# Altium footprint library FYP_Drone.PcbLib: 32 footprints (part 1 of 2)
Each footprint in its own frame and in the unit in brackets; x right, y up, seen from the top. Pads: shape width x height; smd on the part's side, far side on the other; paste and mask are expansions set on the pad; w line width, h text height; cw(c..) or ccw(c..) is an arc to the next point about the centre after c.
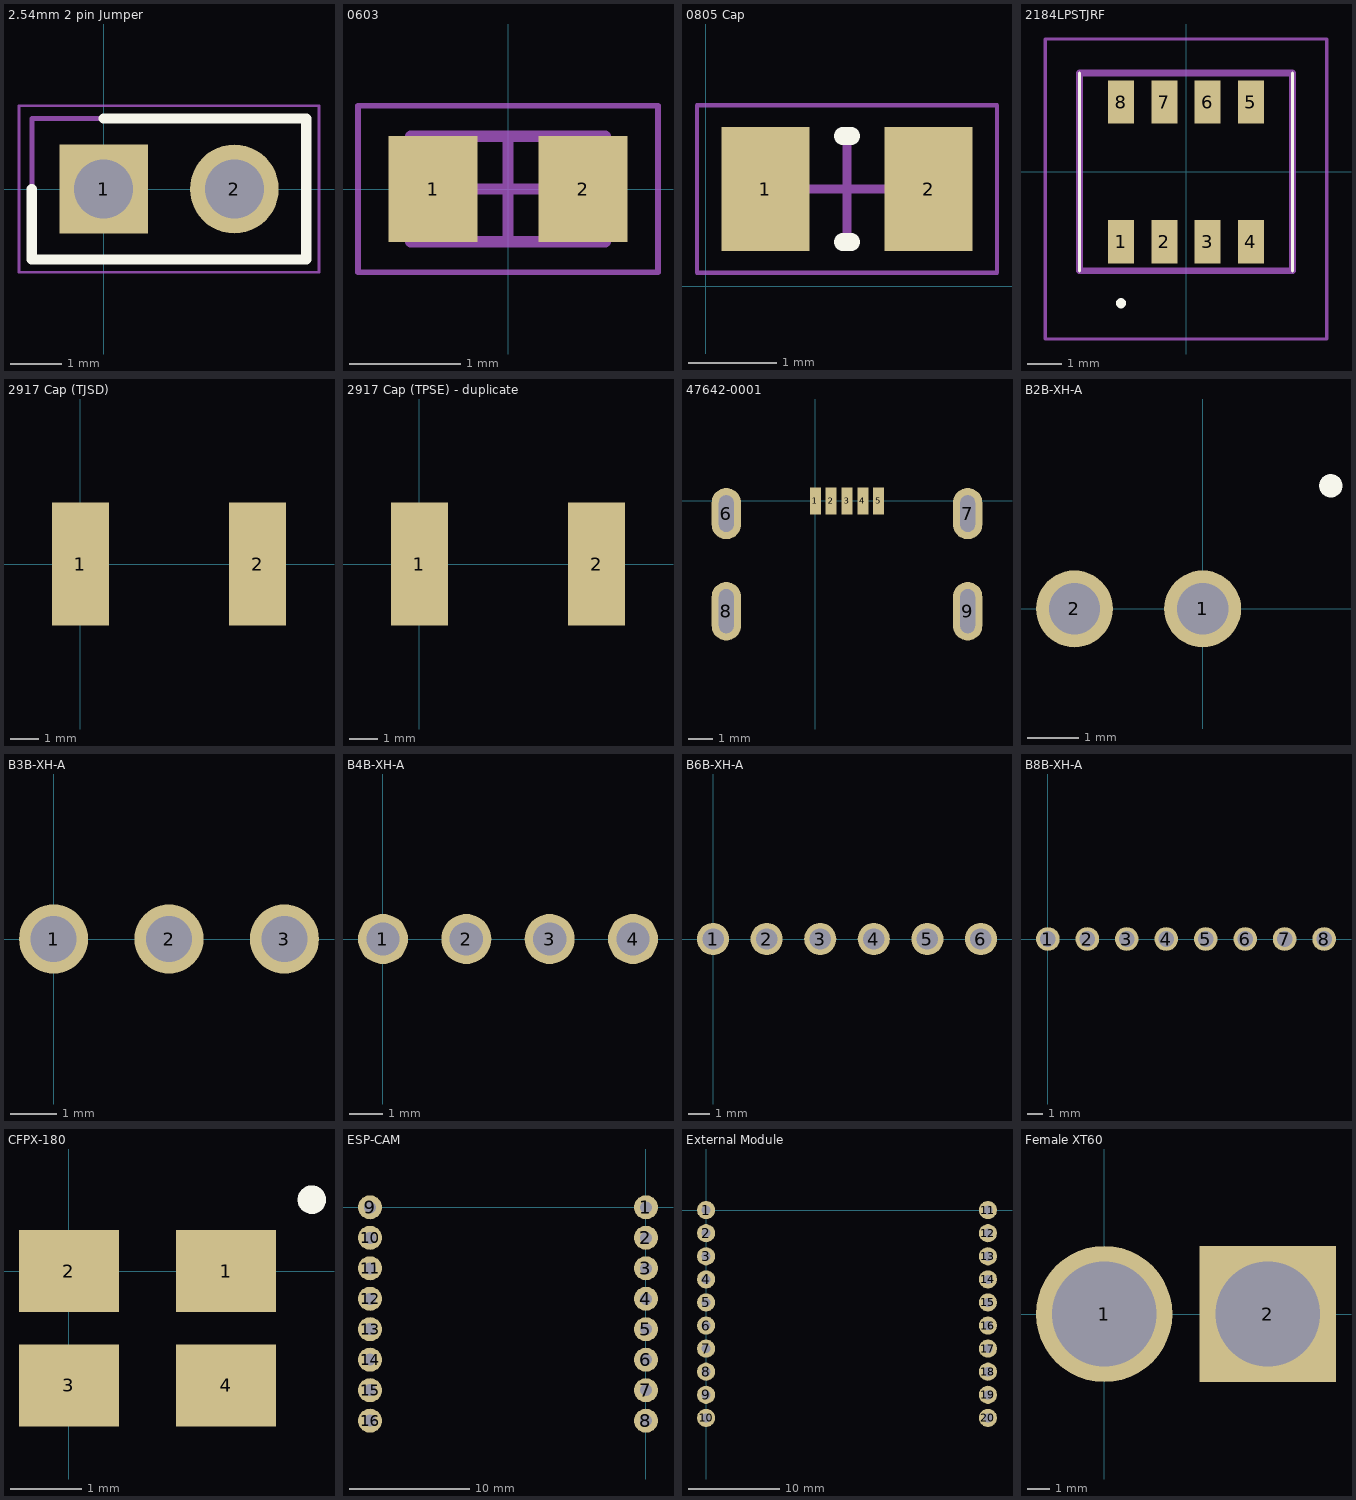
[diagram p0: the footprints below, top view; thin cyan lines are the x and y axes]

## 2.54mm 2 pin Jumper [mm] "Headers & Wire Housings KK 100 Hdr Assy Bkwy Bkwy 02 Ckt 30 SGold"
pads (2):
  rect 1.725x1.725 hole 1.15: 1(0,0)
  round 1.725 hole 1.15: 2(2.54,0)
Top Overlay:
  lines w0.2: -1.395,0 -1.395,-1.37 3.935,-1.37 3.935,1.37 0,1.37
Mechanical 13:
  lines w0.1: -1.395,-1.37 3.935,-1.37 3.935,1.37 -1.395,1.37 -1.395,-1.37
Mechanical 15:
  lines w0.05: -1.645,-1.62 4.185,-1.62 4.185,1.62 -1.645,1.62 -1.645,-1.62
3D body "22-28-5027.stp": height 10.67, standoff -3.68, extent -1.27,-1.245 3.81,1.245

## 0603 [mm] "Generic 0603 resistor"
height 0.55
pads (2):
  rect 0.8x0.95 smd: 1(-0.675,0) 2(0.675,0)
Mechanical 13:
  lines w0.1: -0.875,-0.475 -0.875,0.475 0.875,0.475 0.875,-0.475 -0.875,-0.475
Mechanical 15:
  lines w0.05: -1.35,-0.75 -1.35,0.75 1.35,0.75 1.35,-0.75 -1.35,-0.75
  lines w0.1: -0.475,0 0.475,0 ; 0,-0.475 0,0.475
3D body: height 0.55, standoff 0, extent -0.575,-0.475 0.575,0.475
3D body: height 0.55, standoff 0, extent -0.875,-0.475 -0.575,0.475
3D body: height 0.55, standoff 0, extent 0.575,-0.475 0.875,0.475

## 0805 Cap [mm] "Generic 0805 Cap"
pads (2):
  rect 1x1.4 smd: 1(0.675,1.1) 2(2.525,1.1)
Top Overlay:
  lines w0.2: 1.55,0.5 1.65,0.5 ; 1.55,1.7 1.65,1.7
Mechanical 15:
  lines w0.05: -0.1,0.15 3.3,0.15 3.3,2.05 -0.1,2.05 -0.1,0.15
  lines w0.1: 1.1,1.1 2.1,1.1 ; 1.6,0.6 1.6,1.6
3D body: height 1.25, standoff 0, extent 0.7,0.375 2.5,1.825
3D body: height 1.25, standoff 0, extent 0.5,0.375 0.7,1.825
3D body: height 1.25, standoff 0, extent 2.5,0.375 2.7,1.825

## 2184LPSTJRF [mm]
pads (8):
  rect 0.76x1.27 smd: 1(-1.905,-2.05) 2(-0.635,-2.05) 3(0.635,-2.05) 4(1.905,-2.05) 5(1.905,2.05) 6(0.635,2.05) 7(-0.635,2.05) 8(-1.905,2.05)
Top Overlay:
  lines w0.1: -3.125,-2.9 -3.125,2.9 -3.125,-2.9 ; 3.125,-2.9 3.125,2.9 3.125,-2.9
  lines w0.2: -1.905,-3.9 cw(c-1.905,-3.85) -1.905,-3.8 ; -1.905,-3.9 ccw(c-1.905,-3.85) -1.905,-3.8 ; -1.905,-3.9 cw(c-1.905,-3.85) -1.905,-3.8
Mechanical 13:
  lines w0.2: -3.125,-2.9 -3.125,2.9 3.125,2.9 3.125,-2.9 -3.125,-2.9
Mechanical 15:
  lines w0.1: -4.125,-4.9 -4.125,3.9 4.125,3.9 4.125,-4.9 -4.125,-4.9
3D body "218-4LPSTJRF.stp": height 2.8, standoff 0, extent -3.125,-2.9 3.125,2.9

## 2917 Cap (TJSD) [mm] "Tantalum Capacitors - Solid SMD"
pads (2):
  rect 2x4.3 smd: 1(0,0) 2(6.2,0)
3D body "TJSD v2.step": height 2.9, standoff 0, extent -0.55,-2.15 6.75,2.15

## 2917 Cap (TPSE) - duplicate [mm] "Tantalum Capacitors - Solid SMD"
pads (2):
  rect 2x4.3 smd: 1(0,0) 2(6.2,0)
3D body "TPSE v3.step": height 4.1, standoff 0, extent -0.55,-2.15 6.75,2.15

## 47642-0001 [mm] "Molex USB Connector, Through Hole, Socket B, Solder, Right Angle"
pads (9):
  rect 0.45x1.1 smd: 1(0,0) 2(0.65,0) 3(1.3,0) 4(1.95,0) 5(2.6,0)
  rrect100% 1.2x2.1 hole 1.5 slot 0.6 at 0 deg unplated: 6(-3.65,-0.52) 7(6.25,-0.52)
  rrect100% 1.2x2.4 hole 1.8 slot 0.6 at 0 deg unplated: 8(-3.65,-4.52) 9(6.25,-4.52)
3D body "476420001.stp": height 1.8, standoff -1.18, extent -3.8,-6.88 6.4,0.35

## B2B-XH-A [mm] "2 pin JST-XH male connector"
pads (2):
  round 1.5 hole 1: 1(0,0) 2(-2.5,0)
Top Overlay:
  circle w0.254: c2.5,2.4 r0.1
3D body "B2B-XH-A.STEP": height 2.97, standoff -7.43, extent -4.95,-2.375 2.45,3.375

## B3B-XH-A [mm] "3 pin JST-XH connector"
pads (3):
  round 1.5 hole 1: 1(0,0) 2(2.5,0) 3(5,0)
3D body "B3B-XH-A.STEP": height 7, standoff -3.4, extent -2.45,-2.375 7.45,3.375

## B4B-XH-A [mm]
pads (4):
  round 1.5 hole 1: 1(0,0) 2(2.5,0) 3(5,0) 4(7.5,0)
3D body "B4B-XH-A.STEP": height 7, standoff -3.4, extent -2.45,-2.375 9.95,3.375

## B6B-XH-A [mm]
pads (6):
  round 1.5 hole 1: 1(0,0) 2(2.5,0) 3(5,0) 4(7.5,0) 5(10,0) 6(12.5,0)
3D body "B6B-XH-A.STEP": height 7, standoff -3.4, extent -2.45,-2.375 14.95,3.375

## B8B-XH-A [mm]
pads (8):
  round 1.5 hole 1: 1(0,0) 2(2.5,0) 3(5,0) 4(7.5,0) 5(10,0) 6(12.5,0) 7(15,0) 8(17.5,0)
3D body "B8B-XH-A.STEP": height 7, standoff -3.4, extent -2.45,-2.375 19.95,3.375

## CFPX-180 [mm] "Crystal - 4-Pin 3.2 x 2.5 x 0.8mm"
pads (4):
  rect 1.4x1.15 smd: 1(2.2,0) 2(0,0) 3(0,-1.6) 4(2.2,-1.6)
Top Overlay:
  circle w0.2: c3.4,1 r0.1
3D body "Oscilator v3.step": height 0.8, standoff -0.01, extent -0.6,-2.15 2.8,0.55

## ESP-CAM [mm]
pads (16):
  round 2 hole 1: 1(0,0) 2(0,-2.54) 3(0,-5.08) 4(0,-7.62) 5(0,-10.16) 6(0,-12.7) 7(0,-15.24) 8(0,-17.78) 9(-23,0) 10(-23,-2.54) 11(-23,-5.08) 12(-23,-7.62) 13(-23,-10.16) 14(-23,-12.7) 15(-23,-15.24) 16(-23,-17.78)
3D body "ESP32-CAM v1.step": height 4.51, standoff -7.7, extent -25.2,-35.25 1.8,5.25

## External Module [mm] "20 Pin header for external module"
pads (20):
  round 2 hole 1: 1(0,0) 2(0,-2.54) 3(0,-5.08) 4(0,-7.62) 5(0,-10.16) 6(0,-12.7) 7(0,-15.24) 8(0,-17.78) 9(0,-20.32) 10(0,-22.86) 11(31,0) 12(31,-2.54) 13(31,-5.08) 14(31,-7.62) 15(31,-10.16) 16(31,-12.7) 17(31,-15.24) 18(31,-17.78) 19(31,-20.32) 20(31,-22.86)
3D body "1x10.STEP": height 8.5, standoff -9.14, extent 29.76,-24.1 32.3,1.3
3D body "1x10.STEP": height 8.5, standoff -9.14, extent -1.3,-24.1 1.24,1.3

## Female XT60 [mm]
pads (2):
  round 6 hole 4.6: 1(0,0)
  rect 6x6 hole 4.6: 2(7.2,0)
3D body "XT-60_Macho 1 v1.step": height 16.6, standoff -4.9, extent -4.5,-4.1 11.8,4.1